# EAGLE library part C.H.I.P.V10 (library blinkinlabs)
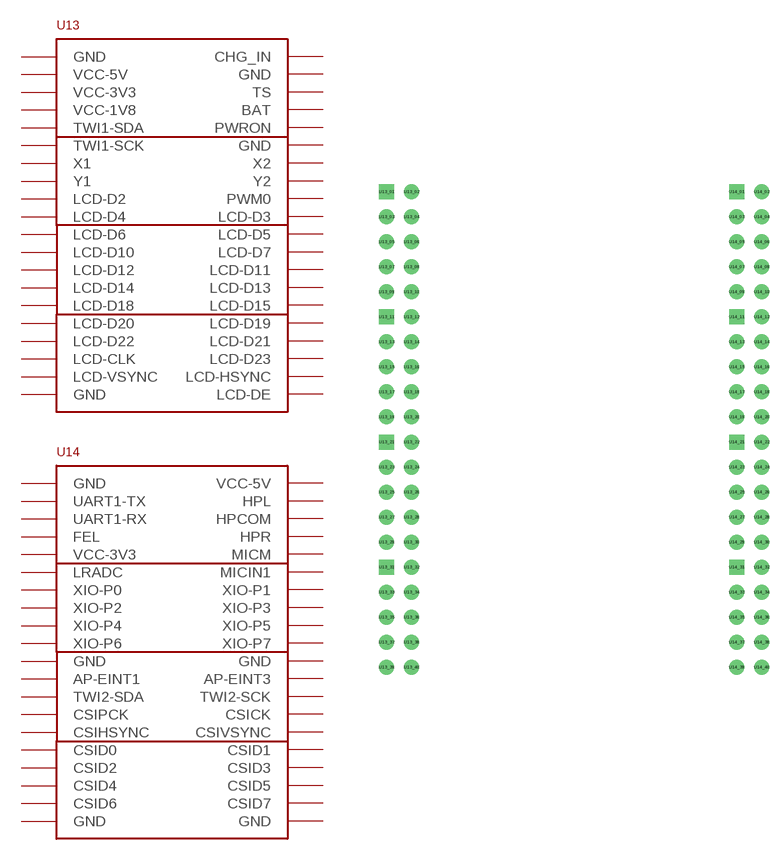
[diagram p17: symbol with the pads of C.H.I.P.V10; footprint C.H.I.P.V10]

Designator prefix -

## C.H.I.P.V10  [C.H.I.P.V10]
U13_01  GND  pwr
U13_02  CHG_IN  pwr
U13_03  VCC-5V  pwr
U13_04  GND  pwr
U13_05  VCC-3V3  pwr
U13_06  TS
U13_07  VCC-1V8  pwr
U13_08  BAT
U13_09  TWI1-SDA
U13_10  PWRON
U13_11  TWI1-SCK
U13_12  GND  pwr
U13_13  X1
U13_14  X2
U13_15  Y1
U13_16  Y2
U13_17  LCD-D2
U13_18  PWM0
U13_19  LCD-D4
U13_20  LCD-D3
U13_21  LCD-D6
U13_22  LCD-D5
U13_23  LCD-D10
U13_24  LCD-D7
U13_25  LCD-D12
U13_26  LCD-D11
U13_27  LCD-D14
U13_28  LCD-D13
U13_29  LCD-D18
U13_30  LCD-D15
U13_31  LCD-D20
U13_32  LCD-D19
U13_33  LCD-D22
U13_34  LCD-D21
U13_35  LCD-CLK
U13_36  LCD-D23
U13_37  LCD-VSYNC
U13_38  LCD-HSYNC
U13_39  GND  pwr
U13_40  LCD-DE
U14_01  GND  pwr
U14_02  VCC-5V  pwr
U14_03  UART1-TX
U14_04  HPL
U14_05  UART1-RX
U14_06  HPCOM
U14_07  FEL
U14_08  HPR
U14_09  VCC-3V3  pwr
U14_10  MICM
U14_11  LRADC
U14_12  MICIN1
U14_13  XIO-P0
U14_14  XIO-P1
U14_15  XIO-P2
U14_16  XIO-P3
U14_17  XIO-P4
U14_18  XIO-P5
U14_19  XIO-P6
U14_20  XIO-P7
U14_21  GND  pwr
U14_22  GND  pwr
U14_23  AP-EINT1
U14_24  AP-EINT3
U14_25  TWI2-SDA
U14_26  TWI2-SCK
U14_27  CSIPCK
U14_28  CSICK
U14_29  CSIHSYNC
U14_30  CSIVSYNC
U14_31  CSID0
U14_32  CSID1
U14_33  CSID2
U14_34  CSID3
U14_35  CSID4
U14_36  CSID5
U14_37  CSID6
U14_38  CSID7
U14_39  GND  pwr
U14_40  GND  pwr

## Footprint C.H.I.P.V10 (pad centres in mm)
drill 1.016 square: U13_01 0,0; U13_11 0,-12.7; U13_21 0,-25.4; U13_31 0,-38.1; U14_01 35.56,0; U14_11 35.56,-12.7; U14_21 35.56,-25.4; U14_31 35.56,-38.1
drill 1.016: U13_02 2.54,0; U13_03 0,-2.54; U13_04 2.54,-2.54; U13_05 0,-5.08; U13_06 2.54,-5.08; U13_07 0,-7.62; U13_08 2.54,-7.62; U13_09 0,-10.16; U13_10 2.54,-10.16; U13_12 2.54,-12.7; U13_13 0,-15.24; U13_14 2.54,-15.24; U13_15 0,-17.78; U13_16 2.54,-17.78; U13_17 0,-20.32; U13_18 2.54,-20.32; U13_19 0,-22.86; U13_20 2.54,-22.86; U13_22 2.54,-25.4; U13_23 0,-27.94; U13_24 2.54,-27.94; U13_25 0,-30.48; U13_26 2.54,-30.48; U13_27 0,-33.02; U13_28 2.54,-33.02; U13_29 0,-35.56; U13_30 2.54,-35.56; U13_32 2.54,-38.1; U13_33 0,-40.64; U13_34 2.54,-40.64; U13_35 0,-43.18; U13_36 2.54,-43.18; U13_37 0,-45.72; U13_38 2.54,-45.72; U13_39 0,-48.26; U13_40 2.54,-48.26; U14_02 38.1,0; U14_03 35.56,-2.54; U14_04 38.1,-2.54; U14_05 35.56,-5.08; U14_06 38.1,-5.08; U14_07 35.56,-7.62; U14_08 38.1,-7.62; U14_09 35.56,-10.16; U14_10 38.1,-10.16; U14_12 38.1,-12.7; U14_13 35.56,-15.24; U14_14 38.1,-15.24; U14_15 35.56,-17.78; U14_16 38.1,-17.78; U14_17 35.56,-20.32; U14_18 38.1,-20.32; U14_19 35.56,-22.86; U14_20 38.1,-22.86; U14_22 38.1,-25.4; U14_23 35.56,-27.94; U14_24 38.1,-27.94; U14_25 35.56,-30.48; U14_26 38.1,-30.48; U14_27 35.56,-33.02; U14_28 38.1,-33.02; U14_29 35.56,-35.56; U14_30 38.1,-35.56; U14_32 38.1,-38.1; U14_33 35.56,-40.64; U14_34 38.1,-40.64; U14_35 35.56,-43.18; U14_36 38.1,-43.18; U14_37 35.56,-45.72; U14_38 38.1,-45.72; U14_39 35.56,-48.26; U14_40 38.1,-48.26